# EAGLE library part LTC2284 (library IC)
Linear Technology LTC2284 (compatible with LTC2282 and LTC2280) Dual 14-Bit, 105Msps (down to 10Msps) Low Power 3V ADC.
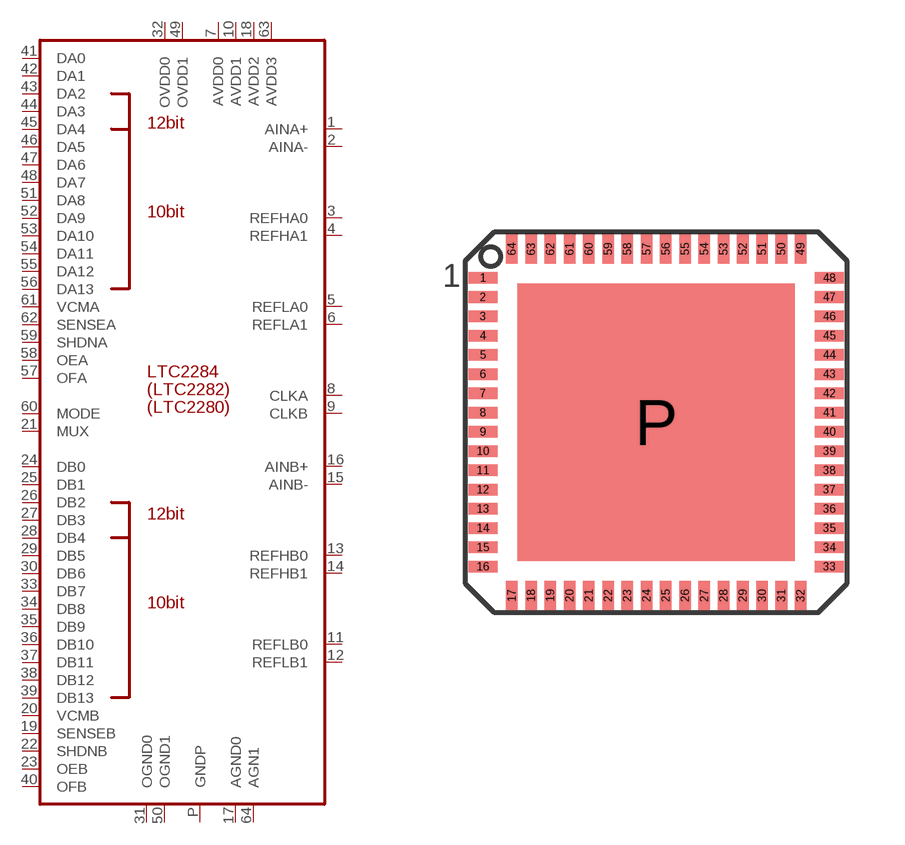
[diagram p124: symbol with the pads of QFN64; footprint QFN64]

Designator prefix IC

## LTC2284  [QFN64]
1  AINA+
2  AINA-
3  REFHA0
4  REFHA1
5  REFLA0
6  REFLA1
7  AVDD0  pwr
8  CLKA
9  CLKB
10  AVDD1  pwr
11  REFLB0
12  REFLB1
13  REFHB0
14  REFHB1
15  AINB-
16  AINB+
17  AGND0  pwr
18  AVDD2  pwr
19  SENSEB
20  VCMB
21  MUX
22  SHDNB
23  OEB
24  DB0
25  DB1
26  DB2
27  DB3
28  DB4
29  DB5
30  DB6
31  OGND0  pwr
32  OVDD0  pwr
33  DB7
34  DB8
35  DB9
36  DB10
37  DB11
38  DB12
39  DB13
40  OFB
41  DA0
42  DA1
43  DA2
44  DA3
45  DA4
46  DA5
47  DA6
48  DA7
49  OVDD1  pwr
50  OGND1  pwr
51  DA8
52  DA9
53  DA10
54  DA11
55  DA12
56  DA13
57  OFA
58  OEA
59  SHDNA
60  MODE
61  VCMA
62  SENSEA
63  AVDD3  pwr
64  AGN1  pwr
P  GNDP  pwr

## Footprint QFN64 (pad centres in mm)
QFN64 with exposed thermal pad
smd 0.75 x 0.3: 1 -4.5,3.75; 2 -4.5,3.25; 3 -4.5,2.75; 4 -4.5,2.25; 5 -4.5,1.75; 6 -4.5,1.25; 7 -4.5,0.75; 8 -4.5,0.25; 9 -4.5,-0.25; 10 -4.5,-0.75; 11 -4.5,-1.25; 12 -4.5,-1.75; 13 -4.5,-2.25; 14 -4.5,-2.75; 15 -4.5,-3.25; 16 -4.5,-3.75; 33 4.5,-3.75; 34 4.5,-3.25; 35 4.5,-2.75; 36 4.5,-2.25; 37 4.5,-1.75; 38 4.5,-1.25; 39 4.5,-0.75; 40 4.5,-0.25; 41 4.5,0.25; 42 4.5,0.75; 43 4.5,1.25; 44 4.5,1.75; 45 4.5,2.25; 46 4.5,2.75; 47 4.5,3.25; 48 4.5,3.75
smd 0.3 x 0.75: 17 -3.75,-4.5; 18 -3.25,-4.5; 19 -2.75,-4.5; 20 -2.25,-4.5; 21 -1.75,-4.5; 22 -1.25,-4.5; 23 -0.75,-4.5; 24 -0.25,-4.5; 25 0.25,-4.5; 26 0.75,-4.5; 27 1.25,-4.5; 28 1.75,-4.5; 29 2.25,-4.5; 30 2.75,-4.5; 31 3.25,-4.5; 32 3.75,-4.5; 49 3.75,4.5; 50 3.25,4.5; 51 2.75,4.5; 52 2.25,4.5; 53 1.75,4.5; 54 1.25,4.5; 55 0.75,4.5; 56 0.25,4.5; 57 -0.25,4.5; 58 -0.75,4.5; 59 -1.25,4.5; 60 -1.75,4.5; 61 -2.25,4.5; 62 -2.75,4.5; 63 -3.25,4.5; 64 -3.75,4.5
smd 7.2 x 7.2: P 0,0